# Altium schematic symbol library 6903 6817 xx 72.SchLib: 12 symbols
Pins are listed as number, name and electrical type; pins without a type are passive.

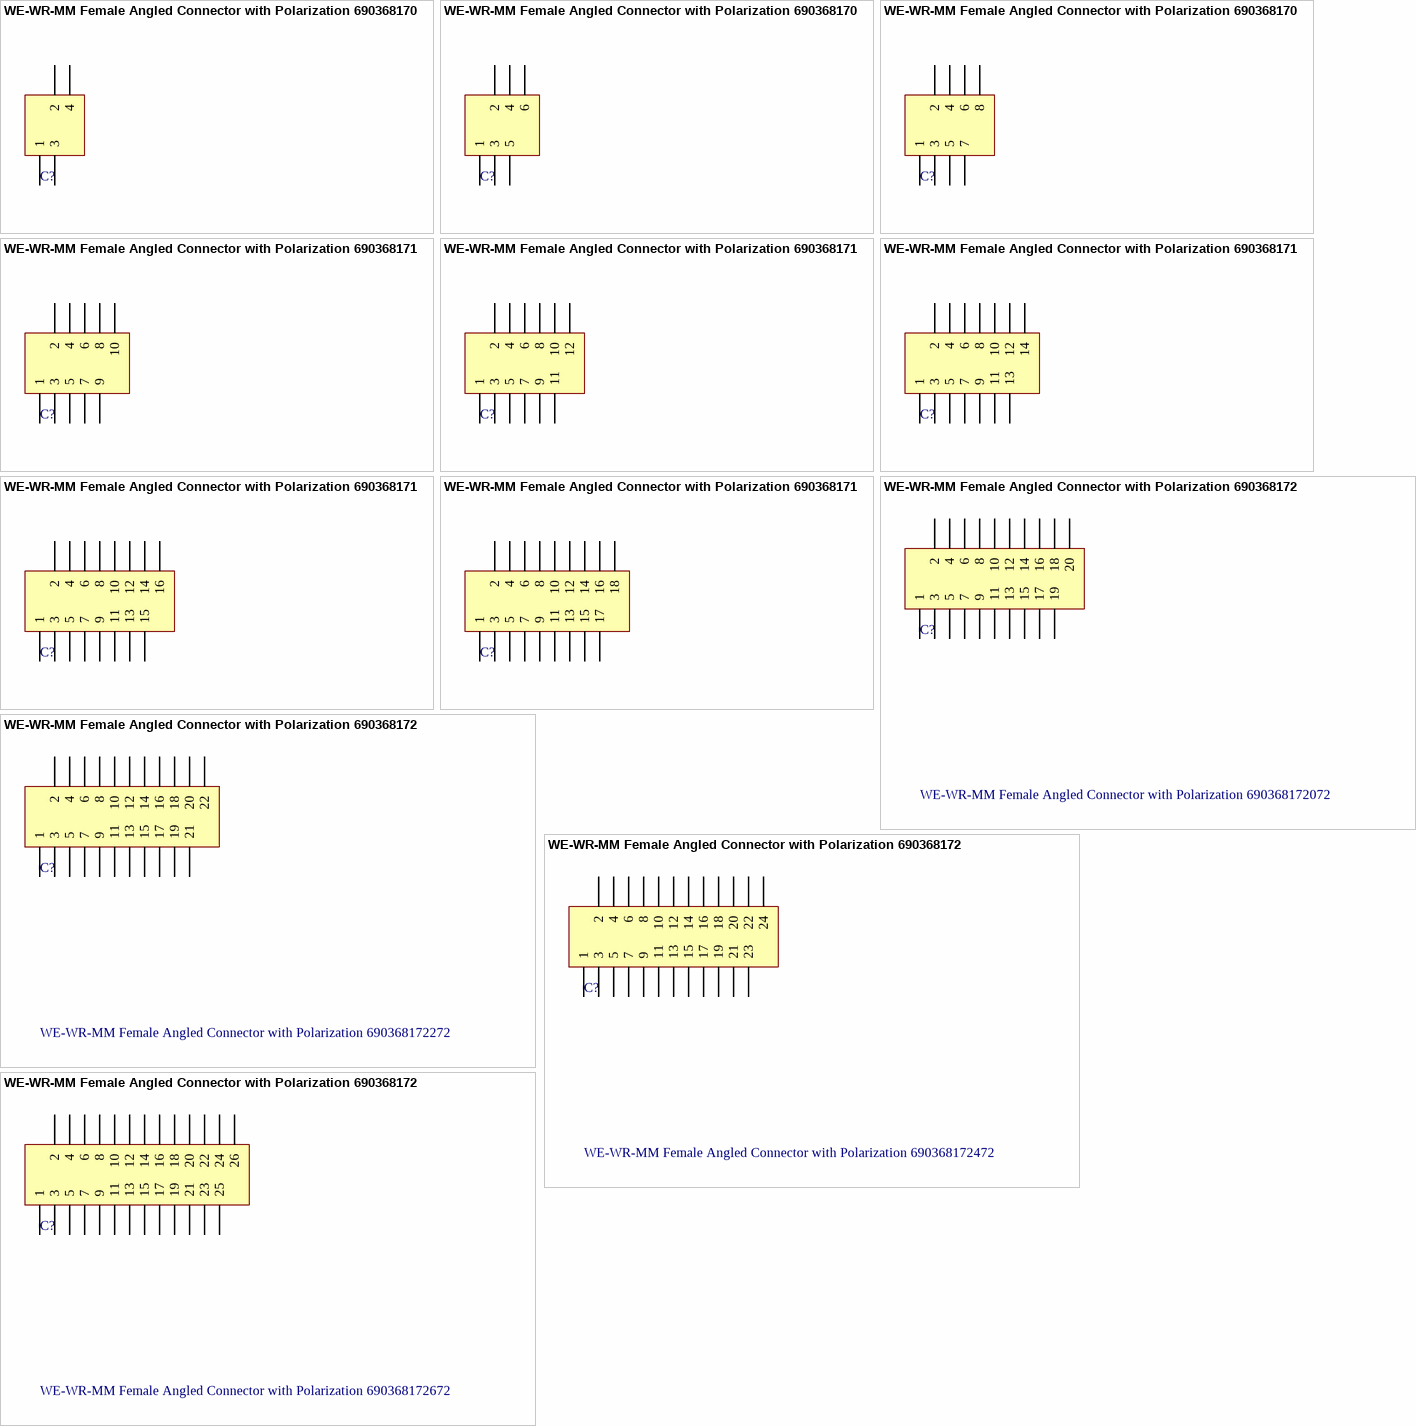
[diagram p0: symbols WE-WR-MM Female Angled Connector with Polarization 690368170472 to WE-WR-MM Female Angled Connector with Polarization 690368172672]

## WE-WR-MM Female Angled Connector with Polarization 690368170472
designator C?
WR-MM Female Angled Connector with Polarization; Manufacturer: Würth Elektronik eiSos GmbH; ComponentLink1 Description: Manufacturer; ComponentLink2 Description: Datasheet; NoPins: 4; Created Date: 18 April 2013; partNo: 690368170472; ComponentLink1URL: http://www.we-online.com; ComponentLink2URL: http://katalog.we-online.de/em/datasheet/69036817xx72.pdf; Created by: Karrer Zheng
footprint 690368170472 (without Latch, 4 pins, right angled)
pins: 1, 2, 3, 4

## WE-WR-MM Female Angled Connector with Polarization 690368170672
designator C?
WR-MM Female Angled Connector with Polarization; Manufacturer: Würth Elektronik eiSos GmbH; ComponentLink1 Description: Manufacturer; ComponentLink2 Description: Datasheet; NoPins: 6; Created Date: 18 April 2013; partNo: 690368170672; ComponentLink1URL: http://www.we-online.com; ComponentLink2URL: http://katalog.we-online.de/em/datasheet/69036817xx72.pdf; Created by: Karrer Zheng
footprint 690368170672 (without Latch, 6 pins, right angled)
pins: 1, 2, 3, 4, 5, 6

## WE-WR-MM Female Angled Connector with Polarization 690368170872
designator C?
WR-MM Female Angled Connector with Polarization; Manufacturer: Würth Elektronik eiSos GmbH; ComponentLink1 Description: Manufacturer; ComponentLink2 Description: Datasheet; NoPins: 8; Created Date: 18 April 2013; partNo: 690368170872; ComponentLink1URL: http://www.we-online.com; ComponentLink2URL: http://katalog.we-online.de/em/datasheet/69036817xx72.pdf; Created by: Karrer Zheng
footprint 690368170872 (without Latch, 8 pins, right angled)
pins: 1, 2, 3, 4, 5, 6, 7, 8

## WE-WR-MM Female Angled Connector with Polarization 690368171072
designator C?
WR-MM Female Angled Connector with Polarization; Manufacturer: Würth Elektronik eiSos GmbH; ComponentLink1 Description: Manufacturer; ComponentLink2 Description: Datasheet; NoPins: 10; Created Date: 18 April 2013; partNo: 690368171072; ComponentLink1URL: http://www.we-online.com; ComponentLink2URL: http://katalog.we-online.de/em/datasheet/69036817xx72.pdf; Created by: Karrer Zheng
footprint 690368171072 (without Latch, 10 pins, right angled)
pins: 1, 2, 3, 4, 5, 6, 7, 8, 9, 10

## WE-WR-MM Female Angled Connector with Polarization 690368171272
designator C?
WR-MM Female Angled Connector with Polarization; Manufacturer: Würth Elektronik eiSos GmbH; ComponentLink1 Description: Manufacturer; ComponentLink2 Description: Datasheet; NoPins: 12; Created Date: 18 April 2013; partNo: 690368171272; ComponentLink1URL: http://www.we-online.com; ComponentLink2URL: http://katalog.we-online.de/em/datasheet/69036817xx72.pdf; Created by: Karrer Zheng
footprint 690368171272 (without Latch, 12 pins, right angled)
pins: 1, 2, 3, 4, 5, 6, 7, 8, 9, 10, 11, 12

## WE-WR-MM Female Angled Connector with Polarization 690368171472
designator C?
WR-MM Female Angled Connector with Polarization; Manufacturer: Würth Elektronik eiSos GmbH; ComponentLink1 Description: Manufacturer; ComponentLink2 Description: Datasheet; NoPins: 14; Created Date: 18 April 2013; partNo: 690368171472; ComponentLink1URL: http://www.we-online.com; ComponentLink2URL: http://katalog.we-online.de/em/datasheet/69036817xx72.pdf; Created by: Karrer Zheng
footprint 690368171472 (without Latch, 14 pins, right angled)
pins: 1, 2, 3, 4, 5, 6, 7, 8, 9, 10, 11, 12, 13, 14

## WE-WR-MM Female Angled Connector with Polarization 690368171672
designator C?
WR-MM Female Angled Connector with Polarization; Manufacturer: Würth Elektronik eiSos GmbH; ComponentLink1 Description: Manufacturer; ComponentLink2 Description: Datasheet; NoPins: 16; Created Date: 18 April 2013; partNo: 690368171672; ComponentLink1URL: http://www.we-online.com; ComponentLink2URL: http://katalog.we-online.de/em/datasheet/69036817xx72.pdf; Created by: Karrer Zheng
footprint 690368171672 (without Latch, 16 pins, right angled)
pins: 1, 2, 3, 4, 5, 6, 7, 8, 9, 10, 11, 12, 13, 14, 15, 16

## WE-WR-MM Female Angled Connector with Polarization 690368171872
designator C?
WR-MM Female Angled Connector with Polarization; Manufacturer: Würth Elektronik eiSos GmbH; ComponentLink1 Description: Manufacturer; ComponentLink2 Description: Datasheet; NoPins: 18; Created Date: 18 April 2013; partNo: 690368171872; ComponentLink1URL: http://www.we-online.com; ComponentLink2URL: http://katalog.we-online.de/em/datasheet/69036817xx72.pdf; Created by: Karrer Zheng
footprint 690368171872 (without Latch, 18 pins, right angled)
pins: 1, 2, 3, 4, 5, 6, 7, 8, 9, 10, 11, 12, 13, 14, 15, 16, 17, 18

## WE-WR-MM Female Angled Connector with Polarization 690368172072
designator C?
WR-MM Female Angled Connector with Polarization; Manufacturer: Würth Elektronik eiSos GmbH; ComponentLink1 Description: Manufacturer; ComponentLink2 Description: Datasheet; NoPins: 20; Created Date: 18 April 2013; partNo: 690368172072; ComponentLink1URL: http://www.we-online.com; ComponentLink2URL: http://katalog.we-online.de/em/datasheet/69036817xx72.pdf; Created by: Karrer Zheng
footprint 690368172072 (without Latch, 20 pins, right angled)
pins: 1, 2, 3, 4, 5, 6, 7, 8, 9, 10, 11, 12, 13, 14, 15, 16, 17, 18, 19, 20

## WE-WR-MM Female Angled Connector with Polarization 690368172272
designator C?
WR-MM Female Angled Connector with Polarization; Manufacturer: Würth Elektronik eiSos GmbH; ComponentLink1 Description: Manufacturer; ComponentLink2 Description: Datasheet; NoPins: 22; Created Date: 18 April 2013; partNo: 690368172272; ComponentLink1URL: http://www.we-online.com; ComponentLink2URL: http://katalog.we-online.de/em/datasheet/69036817xx72.pdf; Created by: Karrer Zheng
footprint 690368172272 (without Latch, 22 pins, right angled)
pins: 1, 2, 3, 4, 5, 6, 7, 8, 9, 10, 11, 12, 13, 14, 15, 16, 17, 18, 19, 20, 21, 22

## WE-WR-MM Female Angled Connector with Polarization 690368172472
designator C?
WR-MM Female Angled Connector with Polarization; Manufacturer: Würth Elektronik eiSos GmbH; ComponentLink1 Description: Manufacturer; ComponentLink2 Description: Datasheet; NoPins: 24; Created Date: 18 April 2013; partNo: 690368172472; ComponentLink1URL: http://www.we-online.com; ComponentLink2URL: http://katalog.we-online.de/em/datasheet/69036817xx72.pdf; Created by: Karrer Zheng
footprint 690368172472 (without Latch, 24 pins, right angled)
pins: 1, 2, 3, 4, 5, 6, 7, 8, 9, 10, 11, 12, 13, 14, 15, 16, 17, 18, 19, 20, 21, 22, 23, 24

## WE-WR-MM Female Angled Connector with Polarization 690368172672
designator C?
WR-MM Female Angled Connector with Polarization; Manufacturer: Würth Elektronik eiSos GmbH; ComponentLink1 Description: Manufacturer; ComponentLink2 Description: Datasheet; NoPins: 26; Created Date: 18 April 2013; partNo: 690368172672; ComponentLink1URL: http://www.we-online.com; ComponentLink2URL: http://katalog.we-online.de/em/datasheet/69036817xx72.pdf; Created by: Karrer Zheng
footprint 690368172672 (without Latch, 26 pins, right angled)
pins: 1, 2, 3, 4, 5, 6, 7, 8, 9, 10, 11, 12, 13, 14, 15, 16, 17, 18, 19, 20, 21, 22, 23, 24, 25, 26